# Altium footprint library MQP_lib.PcbLib: 2 footprints
Each footprint in its own frame and in the unit in brackets; x right, y up, seen from the top. Pads: shape width x height; smd on the part's side, far side on the other; paste and mask are expansions set on the pad; w line width, h text height; cw(c..) or ccw(c..) is an arc to the next point about the centre after c.
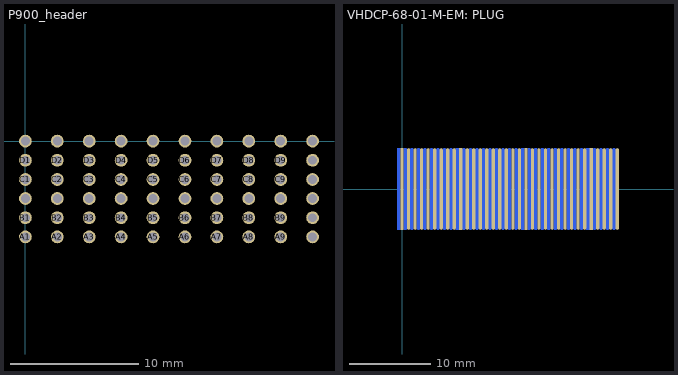
[diagram p0: the footprints below, top view; thin cyan lines are the x and y axes]

## P900_header [mm]
pads (60):
  round 1 hole 0.7: A1(0,-7.5) A2(2.5,-7.5) A3(5,-7.5) A4(7.5,-7.5) A5(10,-7.5) A6(12.5,-7.5) A7(15,-7.5) A8(17.5,-7.5) A9(20,-7.5) A10(22.5,-7.5) B1(0,-6) B2(2.5,-6) B3(5,-6) B4(7.5,-6) B5(10,-6) B6(12.5,-6) B7(15,-6) B8(17.5,-6) B9(20,-6) B10(22.5,-6) BG1(0,-4.5) BG2(2.5,-4.5) BG3(5,-4.5) BG4(7.5,-4.5) BG5(10,-4.5) BG6(12.5,-4.5) BG7(15,-4.5) BG8(17.5,-4.5) BG9(20,-4.5) BG10(22.5,-4.5) C1(0,-3) C2(2.5,-3) C3(5,-3) C4(7.5,-3) C5(10,-3) C6(12.5,-3) C7(15,-3) C8(17.5,-3) C9(20,-3) C10(22.5,-3) D1(0,-1.5) D2(2.5,-1.5) D3(5,-1.5) D4(7.5,-1.5) D5(10,-1.5) D6(12.5,-1.5) D7(15,-1.5) D8(17.5,-1.5) D9(20,-1.5) D10(22.5,-1.5) DG1(0,0) DG2(2.5,0) DG3(5,0) DG4(7.5,0) DG5(10,0) DG6(12.5,0) DG7(15,0) DG8(17.5,0) DG9(20,0) DG10(22.5,0)

## VHDCP-68-01-M-EM: PLUG [mm]
pads (68):
  rect 0.4x10 smd: A1(0,0) A10(7.2,0) A20(15.2,0) A30(23.2,0)
  oval 0.4x10 smd: A2(0.8,0) A3(1.6,0) A4(2.4,0) A5(3.2,0) A6(4,0) A7(4.8,0) A8(5.6,0) A9(6.4,0) A11(8,0) A12(8.8,0) A13(9.6,0) A14(10.4,0) A15(11.2,0) A16(12,0) A17(12.8,0) A18(13.6,0) A19(14.4,0) A21(16,0) A22(16.8,0) A23(17.6,0) A24(18.4,0) A25(19.2,0) A26(20,0) A27(20.8,0) A28(21.6,0) A29(22.4,0) A31(24,0) A32(24.8,0) A33(25.6,0) A34(26.4,0)
  rect 0.4x10 smd far side: B1(-0.4,0) B10(6.8,0) B20(14.8,0) B30(22.8,0)
  oval 0.4x10 smd far side: B2(0.4,0) B3(1.2,0) B4(2,0) B5(2.8,0) B6(3.6,0) B7(4.4,0) B8(5.2,0) B9(6,0) B11(7.6,0) B12(8.4,0) B13(9.2,0) B14(10,0) B15(10.8,0) B16(11.6,0) B17(12.4,0) B18(13.2,0) B19(14,0) B21(15.6,0) B22(16.4,0) B23(17.2,0) B24(18,0) B25(18.8,0) B26(19.6,0) B27(20.4,0) B28(21.2,0) B29(22,0) B31(23.6,0) B32(24.4,0) B33(25.2,0) B34(26,0)